# Altium footprint library M7.PcbLib: 3 footprints
Each footprint in its own frame and in the unit in brackets; x right, y up, seen from the top. Pads: shape width x height; smd on the part's side, far side on the other; paste and mask are expansions set on the pad; w line width, h text height; cw(c..) or ccw(c..) is an arc to the next point about the centre after c.
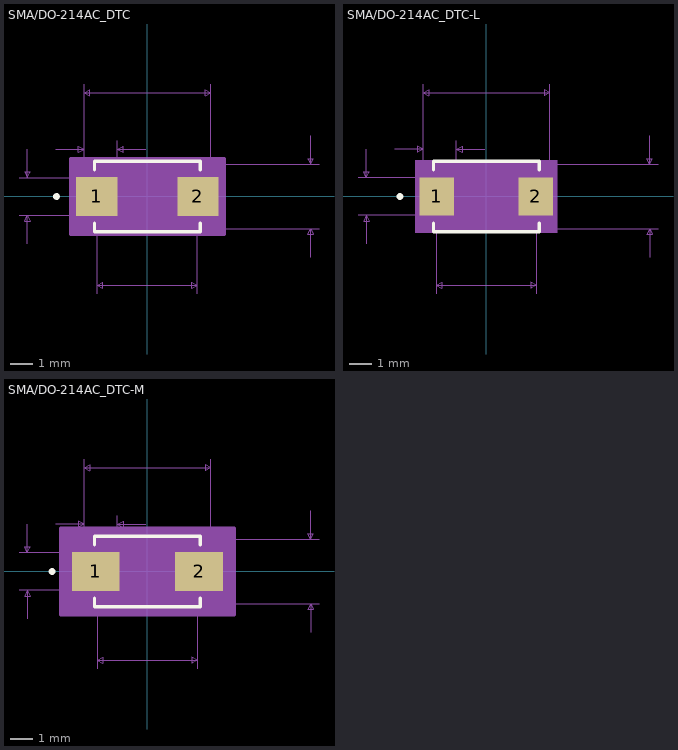
[diagram p0: the footprints below, top view; thin cyan lines are the x and y axes]

## SMA/DO-214AC_DTC [mm]
pads (2):
  rect 1.849x1.752 smd paste+0 mask+0: 1(-2.27,0) 2(2.27,0)
Top Overlay:
  circle w0.152: c-4.084,0 r0.076
  lines w0.152: -2.375,-1.209 -2.375,-1.575 2.375,-1.575 2.375,-1.209 ; -2.375,1.209 -2.375,1.575 2.375,1.575 2.375,1.209
Mechanical 5:
  region: 3.385,-1.638 -3.385,-1.638 -3.385,1.638 3.385,1.638
Mechanical 7:
  lines w0.025: -5.766,-0.851 -2.845,-0.851 ; -5.766,0.851 -2.845,0.851 ; -5.385,-2.121 -5.385,-0.851 ; -5.385,2.121 -5.385,0.851 ; -4.115,2.121 -2.845,2.121 ; -2.845,2.502 -2.845,0 -2.845,5.042 ; -2.248,-4.369 -2.248,0 ; -1.346,0 -1.346,2.502 ; -0.076,2.121 -1.346,2.121 ; 0,-1.448 7.709,-1.448 ; 0,1.448 7.709,1.448 ; 2.248,-4.369 2.248,0 ; 2.845,0 2.845,5.042 ; 7.328,-2.718 7.328,-1.448 ; 7.328,2.718 7.328,1.448 ; -5.385,-0.851 -5.258,-1.105 -5.512,-1.105 -5.385,-0.851 ; -5.385,0.851 -5.258,1.105 -5.512,1.105 -5.385,0.851 ; -2.845,2.121 -3.099,1.994 -3.099,2.248 -2.845,2.121 ; -2.845,4.661 -2.591,4.534 -2.591,4.788 -2.845,4.661 ; -2.845,4.661 2.845,4.661 ; -2.248,-3.988 -1.994,-4.115 -1.994,-3.861 -2.248,-3.988 ; -2.248,-3.988 2.248,-3.988 ; -1.346,2.121 -1.092,1.994 -1.092,2.248 -1.346,2.121 ; 2.248,-3.988 1.994,-4.115 1.994,-3.861 2.248,-3.988 ; 2.845,4.661 2.591,4.534 2.591,4.788 2.845,4.661 ; 7.328,-1.448 7.455,-1.702 7.201,-1.702 7.328,-1.448 ; 7.328,1.448 7.455,1.702 7.201,1.702 7.328,1.448
  text "0.177in/4.496mm" at -2.381,-5.131 h0.64
  text "0.114in/2.896mm" at 7.836,-0.318 h0.64
  text "0.067in/1.702mm" at -10.655,-0.318 h0.64
  text "0.059in/1.499mm" at -4.477,2.629 h0.64
  text "0.224in/5.69mm" at -2.222,5.169 h0.64
  text "Alt 2 Padstyle: b229_152h76" at -8.572,-12.814 h1.27
  text "Alt 1 Padstyle: b152_229h76" at -8.572,-10.909 h1.27
  text "Default Padstyle: r185_175" at -8.255,-9.004 h1.27
Mechanical 13:
  circle w0: c-2.271,0 r0.076
  lines w0.025: -2.248,-0.724 -1.524,-1.448 ; -2.248,0.724 -1.524,1.448 ; -2.845,-0.851 -2.248,-0.851 -2.248,0.851 -2.845,0.851 -2.845,-0.851 ; -2.248,-1.448 -2.248,1.448 2.248,1.448 2.248,-1.448 -2.248,-1.448 ; 2.248,-0.851 2.845,-0.851 2.845,0.851 2.248,0.851 2.248,-0.851
Mechanical 15:
  region: 3.449,-1.702 -3.449,-1.702 -3.449,1.702 3.449,1.702
  lines w0.152: -3.449,-1.702 3.449,-1.702 3.449,1.702 -3.449,1.702 -3.449,-1.702
3D body "M7_DO-214AC.step": height 2.34, standoff 0, extent -2.642,-1.397 2.642,1.397
3D body: height 0.25, standoff 0, extent 0,0 0.254,0.254

## SMA/DO-214AC_DTC-L [mm]
pads (2):
  rect 1.549x1.712 smd paste+0 mask+0: 1(-2.22,0) 2(2.22,0)
Top Overlay:
  circle w0.152: c-3.884,0 r0.076
  lines w0.152: -2.375,-1.189 -2.375,-1.575 2.375,-1.575 2.375,-1.189 ; -2.375,1.189 -2.375,1.575 2.375,1.575 2.375,1.189
Mechanical 5:
  region: 3.185,-1.638 -3.185,-1.638 -3.185,1.638 3.185,1.638
Mechanical 7:
  lines w0.025: -5.766,-0.851 -2.845,-0.851 ; -5.766,0.851 -2.845,0.851 ; -5.385,-2.121 -5.385,-0.851 ; -5.385,2.121 -5.385,0.851 ; -4.115,2.121 -2.845,2.121 ; -2.845,2.502 -2.845,0 -2.845,5.042 ; -2.248,-4.369 -2.248,0 ; -1.346,0 -1.346,2.502 ; -0.076,2.121 -1.346,2.121 ; 0,-1.448 7.709,-1.448 ; 0,1.448 7.709,1.448 ; 2.248,-4.369 2.248,0 ; 2.845,0 2.845,5.042 ; 7.328,-2.718 7.328,-1.448 ; 7.328,2.718 7.328,1.448 ; -5.385,-0.851 -5.512,-1.105 -5.258,-1.105 -5.385,-0.851 ; -5.385,0.851 -5.512,1.105 -5.258,1.105 -5.385,0.851 ; -2.845,2.121 -3.099,2.248 -3.099,1.994 -2.845,2.121 ; -2.845,4.661 2.845,4.661 ; -2.845,4.661 -2.591,4.788 -2.591,4.534 -2.845,4.661 ; -2.248,-3.988 2.248,-3.988 ; -2.248,-3.988 -1.994,-3.861 -1.994,-4.115 -2.248,-3.988 ; -1.346,2.121 -1.092,2.248 -1.092,1.994 -1.346,2.121 ; 2.248,-3.988 1.994,-3.861 1.994,-4.115 2.248,-3.988 ; 2.845,4.661 2.591,4.788 2.591,4.534 2.845,4.661 ; 7.328,-1.448 7.201,-1.702 7.455,-1.702 7.328,-1.448 ; 7.328,1.448 7.201,1.702 7.455,1.702 7.328,1.448
  text "Default Padstyle: r155_171" at -8.255,-8.984 h1.27
  text "Alt 1 Padstyle: b152_229h76" at -8.572,-10.889 h1.27
  text "Alt 2 Padstyle: b229_152h76" at -8.572,-12.794 h1.27
  text "0.224in/5.69mm" at -2.222,5.169 h0.64
  text "0.059in/1.499mm" at -4.477,2.629 h0.64
  text "0.067in/1.702mm" at -10.655,-0.318 h0.64
  text "0.114in/2.896mm" at 7.836,-0.318 h0.64
  text "0.177in/4.496mm" at -2.381,-5.131 h0.64
Mechanical 13:
  circle w0: c-2.22,0 r0.076
  lines w0.025: -2.248,-0.724 -1.524,-1.448 ; -2.248,0.724 -1.524,1.448 ; -2.845,-0.851 -2.845,0.851 -2.248,0.851 -2.248,-0.851 -2.845,-0.851 ; -2.248,-1.448 2.248,-1.448 2.248,1.448 -2.248,1.448 -2.248,-1.448 ; 2.248,-0.851 2.248,0.851 2.845,0.851 2.845,-0.851 2.248,-0.851
Mechanical 15:
  region: 3.096,-1.549 -3.096,-1.549 -3.096,1.549 3.096,1.549
  lines w0.152: -3.096,-1.549 -3.096,1.549 3.096,1.549 3.096,-1.549 -3.096,-1.549
3D body: height 0.25, standoff 0, extent 0,0 0.254,0.254

## SMA/DO-214AC_DTC-M [mm]
pads (2):
  rect 2.149x1.752 smd paste+0 mask+0: 1(-2.321,0) 2(2.321,0)
Top Overlay:
  circle w0.152: c-4.284,0 r0.076
  lines w0.152: -2.375,-1.209 -2.375,-1.575 2.375,-1.575 2.375,-1.209 ; -2.375,1.209 -2.375,1.575 2.375,1.575 2.375,1.209
Mechanical 5:
  region: 3.585,-1.638 -3.585,-1.638 -3.585,1.638 3.585,1.638
Mechanical 7:
  lines w0.025: -5.766,-0.851 -2.845,-0.851 ; -5.766,0.851 -2.845,0.851 ; -5.385,-2.121 -5.385,-0.851 ; -5.385,2.121 -5.385,0.851 ; -4.115,2.121 -2.845,2.121 ; -2.845,2.502 -2.845,0 -2.845,5.042 ; -2.248,-4.369 -2.248,0 ; -1.346,0 -1.346,2.502 ; -0.076,2.121 -1.346,2.121 ; 0,-1.448 7.709,-1.448 ; 0,1.448 7.709,1.448 ; 2.248,-4.369 2.248,0 ; 2.845,0 2.845,5.042 ; 7.328,-2.718 7.328,-1.448 ; 7.328,2.718 7.328,1.448 ; -5.385,-0.851 -5.512,-1.105 -5.258,-1.105 -5.385,-0.851 ; -5.385,0.851 -5.512,1.105 -5.258,1.105 -5.385,0.851 ; -2.845,2.121 -3.099,2.248 -3.099,1.994 -2.845,2.121 ; -2.845,4.661 2.845,4.661 ; -2.845,4.661 -2.591,4.788 -2.591,4.534 -2.845,4.661 ; -2.248,-3.988 2.248,-3.988 ; -2.248,-3.988 -1.994,-3.861 -1.994,-4.115 -2.248,-3.988 ; -1.346,2.121 -1.092,2.248 -1.092,1.994 -1.346,2.121 ; 2.248,-3.988 1.994,-3.861 1.994,-4.115 2.248,-3.988 ; 2.845,4.661 2.591,4.788 2.591,4.534 2.845,4.661 ; 7.328,-1.448 7.201,-1.702 7.455,-1.702 7.328,-1.448 ; 7.328,1.448 7.201,1.702 7.455,1.702 7.328,1.448
  text "Default Padstyle: r215_175" at -8.255,-9.004 h1.27
  text "Alt 1 Padstyle: b152_229h76" at -8.572,-10.909 h1.27
  text "Alt 2 Padstyle: b229_152h76" at -8.572,-12.814 h1.27
  text "0.224in/5.69mm" at -2.222,5.169 h0.64
  text "0.059in/1.499mm" at -4.477,2.629 h0.64
  text "0.067in/1.702mm" at -10.655,-0.318 h0.64
  text "0.114in/2.896mm" at 7.836,-0.318 h0.64
  text "0.177in/4.496mm" at -2.381,-5.131 h0.64
Mechanical 13:
  circle w0: c-2.321,0 r0.076
  lines w0.025: -2.248,-0.724 -1.524,-1.448 ; -2.248,0.724 -1.524,1.448 ; -2.845,-0.851 -2.845,0.851 -2.248,0.851 -2.248,-0.851 -2.845,-0.851 ; -2.248,-1.448 2.248,-1.448 2.248,1.448 -2.248,1.448 -2.248,-1.448 ; 2.248,-0.851 2.248,0.851 2.845,0.851 2.845,-0.851 2.248,-0.851
Mechanical 15:
  region: 3.903,-1.956 -3.903,-1.956 -3.903,1.956 3.903,1.956
  lines w0.152: -3.903,-1.956 -3.903,1.956 3.903,1.956 3.903,-1.956 -3.903,-1.956
3D body: height 0.25, standoff 0, extent 0,0 0.254,0.254